# Altium schematic symbol library IC_PWR.SchLib: 5 symbols
Pins are listed as number, name and electrical type; pins without a type are passive.

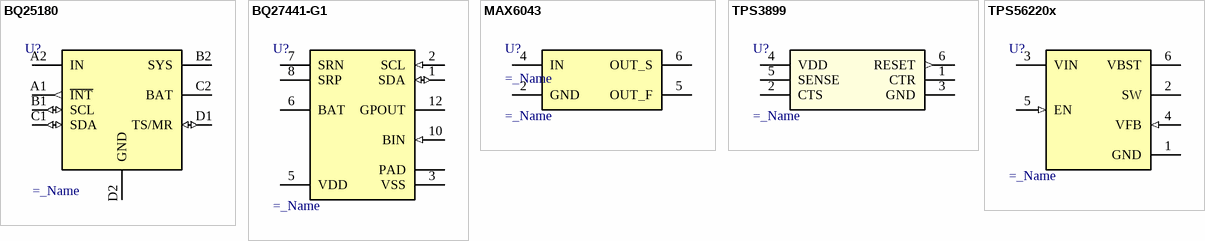
[diagram p0: symbols BQ25180 to TPS56220x]

## BQ25180
designator U?  (value not drawn)
=description; Value: =_Name
pins: A1 ~{INT} (out), A2 IN (power), B1 SCL (io), B2 SYS (power), C1 SDA (io), C2 BAT (power), D1 TS/MR (io), D2 GND

## BQ27441-G1
designator U?  (value not drawn)
=description; Value: =_Name
pins: 1 SDA (io), 2 SCL (in), 3 VSS (power), 5 VDD (power), 6 BAT (power), 7 SRN, 8 SRP, 10 BIN (in), 12 GPOUT (oc), PAD (power)

## MAX6043
designator U?
=description; Value: =_Name
pins: 2 GND, 4 IN, 5 OUT_F, 6 OUT_S

## TPS3899
designator U?  (value not drawn)
=description; Value: =_Name
pins: 1 CTR, 2 CTS, 3 GND (power), 4 VDD (power), 5 SENSE, 6 RESET (out)

## TPS56220x
designator U?  (value not drawn)
=description; Value: =_Name
pins: 1 GND (power), 2 SW, 3 VIN (power), 4 VFB (in), 5 EN (in), 6 VBST (power)